# Altium schematic symbol library SSM3K15AMFV,L3F.Schlib: 1 symbol
Pins are listed as number, name and electrical type; pins without a type are passive.

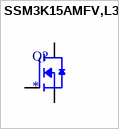
[diagram p0: symbol SSM3K15AMFV,L3F]

## SSM3K15AMFV,L3F
designator Q?
pins: 1 G, 2 S, 3 D